# EAGLE library part MMA845X_BREAKOUT (library ghoust)
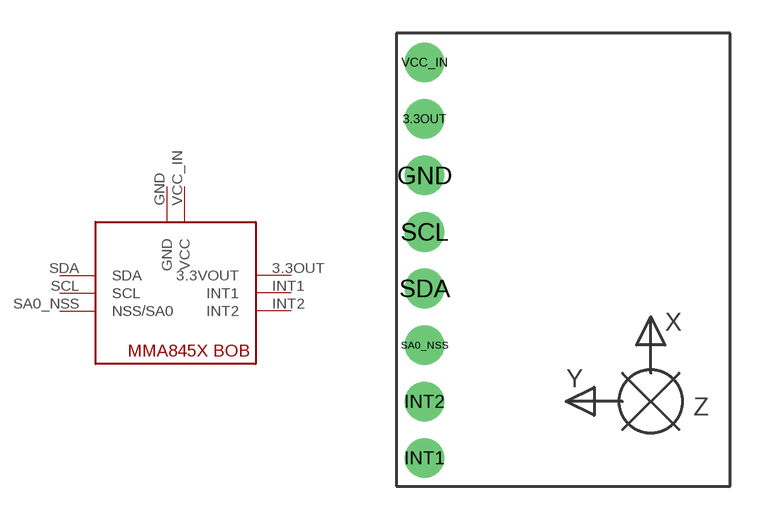
[diagram p0: symbol with the pads of MMA845XBOB; footprint MMA845XBOB]

Designator prefix -

## MMA845X_BREAKOUT  [MMA845XBOB]
3.3OUT  3.3VOUT
GND  GND
INT1  INT1
INT2  INT2
SA0_NSS  NSS/SA0
SCL  SCL
SDA  SDA
VCC_IN  VCC

## Footprint MMA845XBOB (pad centres in mm)
drill 1 pad 1.778: 3.3OUT 1.27,16.51; GND 1.27,13.97; INT1 1.27,1.27; INT2 1.27,3.81; SA0_NSS 1.27,6.35; SCL 1.27,11.43; SDA 1.27,8.89; VCC_IN 1.27,19.05